# Altium footprint library PCB - LEADLESS - SON - QORVO SON-8 QPL9058.PCBLIB: 1 footprints
Each footprint in its own frame and in the unit in brackets; x right, y up, seen from the top. Pads: shape width x height; smd on the part's side, far side on the other; paste and mask are expansions set on the pad; w line width, h text height; cw(c..) or ccw(c..) is an arc to the next point about the centre after c.
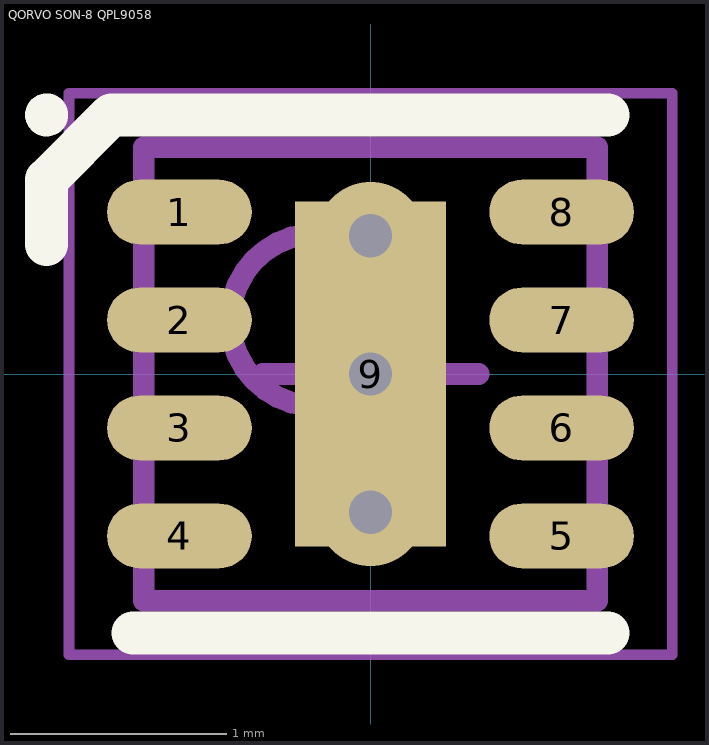
[diagram p0: the footprint, top view; thin cyan lines are the x and y axes]

## QORVO SON-8 QPL9058 [mm] "SON, 8-Leads, Body 2.00x2.00mm, Pitch 0.50mm, Thermal Pad 0.00x0.00mm, IPC Medium Density"
height 0.9
pads (9):
  oval 0.67x0.3 smd: 1(-0.885,0.75) 2(-0.885,0.25) 3(-0.885,-0.25) 4(-0.885,-0.75) 5(0.885,-0.75) 6(0.885,-0.25) 7(0.885,0.25) 8(0.885,0.75)
  rect 0.7x1.6 smd: 9(0,0)
via 0,-0.64 diameter 0.5 hole 0.2
via 0,0.64 diameter 0.5 hole 0.2
via 0,0 diameter 0.5 hole 0.2
Top Overlay:
  circle w0.1: c-1.5,1.2 r0.05
  lines w0.2: -1.5,0.6 -1.5,0.9 -1.2,1.2 1.1,1.2 ; -1.1,-1.2 1.1,-1.2
Mechanical 13:
  circle w0.1: c-0.25,0.25 r0.4
  lines w0.1: -1.05,-1.05 -1.05,1.05 1.05,1.05 1.05,-1.05 -1.05,-1.05
Mechanical 15:
  lines w0.05: -1.397,-1.3 -1.397,1.3 1.397,1.3 1.397,-1.3 -1.397,-1.3
  lines w0.1: -0.5,0 0.5,0 ; 0,-0.5 0,0.5
3D body "QORVO SON-8 QPL9058.step": height 0.9, standoff 0, extent -1.051,-1.05 1.051,1.05